# EAGLE library part LM386 (library LM386)
Audio Amplifier Source: Datasheet <https://components101.com/ics/lm386-audio-amplifier-ic-pinout-circuit-datasheet>
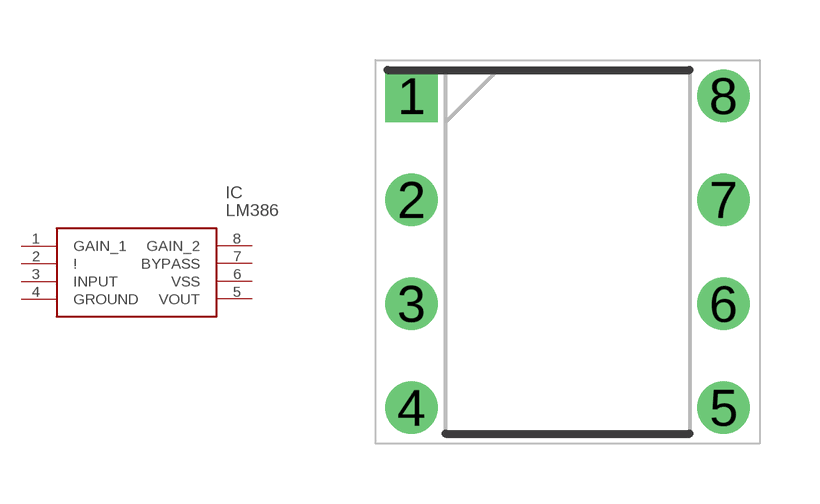
[diagram p0: symbol with the pads of DIP780W60P260L900H410Q8N; footprint DIP780W60P260L900H410Q8N]

Designator prefix IC

## LM386 (Description: Audio Amplifier; Height: 4.1mm; Manufacturer_Name: Samsung; Manufacturer_Part_Number: LM386)  [DIP780W60P260L900H410Q8N]
1  GAIN_1
2  !  in
3  INPUT  in
4  GROUND  pwr
5  VOUT  out
6  VSS  pwr
7  BYPASS
8  GAIN_2

## Footprint DIP780W60P260L900H410Q8N (pad centres in mm)
LM386
drill 0.8 pad 1.2 square: 1 -3.9,3.9
drill 0.8 pad 1.2: 2 -3.9,1.3; 3 -3.9,-1.3; 4 -3.9,-3.9; 5 3.9,-3.9; 6 3.9,-1.3; 7 3.9,1.3; 8 3.9,3.9